# Altium footprint library BB-HEADER-P18-P34.PcbLib: 1 footprints
Each footprint in its own frame and in the unit in brackets; x right, y up, seen from the top. Pads: shape width x height; smd on the part's side, far side on the other; paste and mask are expansions set on the pad; w line width, h text height; cw(c..) or ccw(c..) is an arc to the next point about the centre after c.
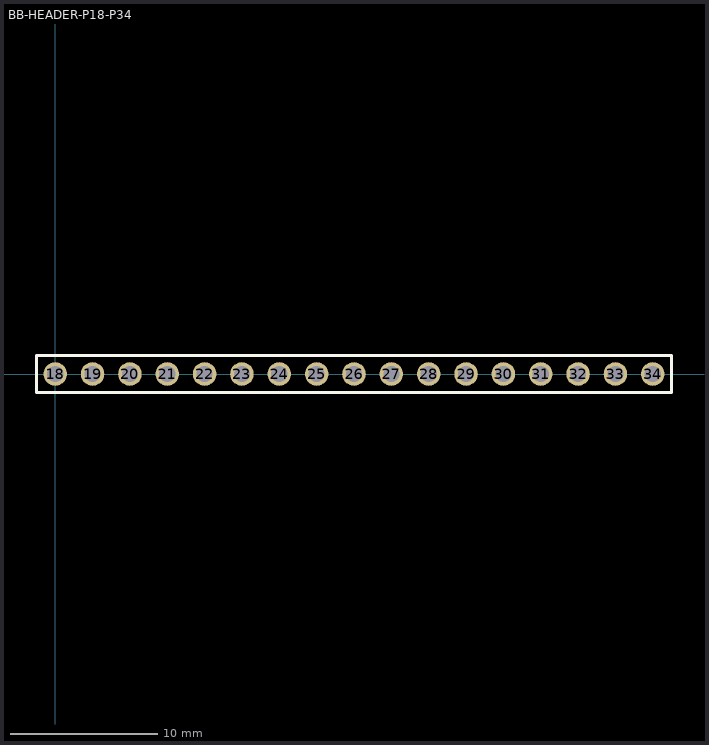
[diagram p0: the footprint, top view; thin cyan lines are the x and y axes]

## BB-HEADER-P18-P34 [mm] "BB Header, Vertical, Male, 0.1\", 2.54mm, P18-P34"
height 11.6
pads (17):
  round 1.6 hole 1.1: 18(0,0) 19(2.54,0) 20(5.08,0) 21(7.62,0) 22(10.16,0) 23(12.7,0) 24(15.24,0) 25(17.78,0) 26(20.32,0) 27(22.86,0) 28(25.4,0) 29(27.94,0) 30(30.48,0) 31(33.02,0) 32(35.56,0) 33(38.1,0) 34(40.64,0)
Top Overlay:
  lines w0.2: -1.27,-1.27 -1.27,1.27 0.635,1.27 41.91,1.27 41.91,-1.27 -1.27,-1.27
Mechanical 13:
  lines w0.1: -1.27,-1.27 -1.27,1.27 41.91,1.27 41.91,-1.27 -1.27,-1.27
Mechanical 15:
  lines w0.1: -1.32,-1.32 41.96,-1.32 41.96,1.32 -1.32,1.32 -1.32,-1.32
3D body: height 8.51, standoff -2.99, extent -1.27,-1.27 41.91,1.27